# EAGLE library part FSUSB63 (library fairchild-semi)
USB 2.0 SWITCH/MULTIPLEXER
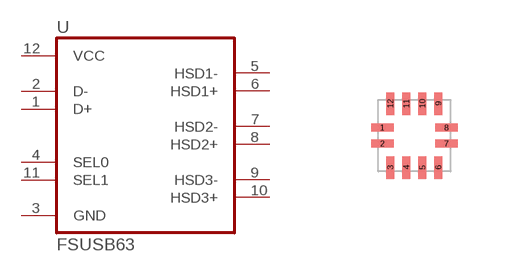
[diagram p13: symbol with the pads of UFQFN12; footprint UFQFN12]

Designator prefix U

## FSUSB63  [UFQFN12]
1  D+
2  D-
3  GND  pwr
4  SEL0  in
5  HSD1-
6  HSD1+
7  HSD2-
8  HSD2+
9  HSD3-
10  HSD3+
11  SEL1  in
12  VCC  pwr

## Footprint UFQFN12 (pad centres in mm)
12-UFQFN 12-UMLP (1.8x1.8)
smd 0.563 x 0.2: 1 -0.8,0.2; 2 -0.8,-0.2; 7 0.8,-0.2; 8 0.8,0.2
smd 0.2 x 0.563: 3 -0.6,-0.8; 4 -0.2,-0.8; 5 0.2,-0.8; 6 0.6,-0.8; 9 0.6,0.8; 10 0.2,0.8; 11 -0.2,0.8; 12 -0.6,0.8